# Altium schematic symbol library BSS84PH6327XTSA2.SchLib: 1 symbol
Pins are listed as number, name and electrical type; pins without a type are passive.

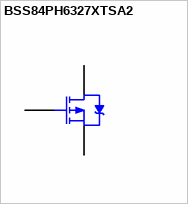
[diagram p0: symbol BSS84PH6327XTSA2]

## BSS84PH6327XTSA2
designator Q?, comment PMOS
Manufacturer_id: 1; idFuse: 3; Name: 3568 Mini Fuse Holder; Drawer_id: 1
pins: 1 G, 2 S, 3 D